# Altium schematic symbol library 6MS.SchLib: 5 symbols
Pins are listed as number, name and electrical type; pins without a type are passive.

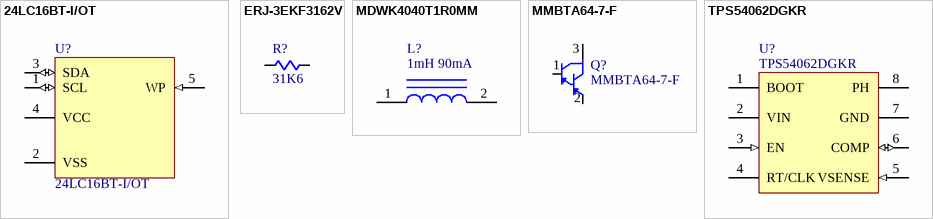
[diagram p0: symbols 24LC16BT-I/OT to TPS54062DGKR]

## 24LC16BT-I/OT
designator U?, comment value 24LC16BT-I/OT  (hidden comment: IC Mem EEPROM 16Kb (2K x 8) I2C SOT-23-5)
Dist: Digikey; Dist P/N: 24LC16BT-I/OTCT-ND; Mfg: Microchip; Mfgr P/N: 24LC16BT-I/OT; Price: 0.38; HelpURL: http://www.microchip.com/mymicrochip/filehandler.aspx?ddocname=en011855
footprint SOT23-5N (SOT23, 5-Leads, Body 3.0x3.0mm (max), Pitch 0.95mm, IPC Medium Density)
pins: 1 SCL (io), 2 VSS (power), 3 SDA (io), 4 VCC (power), 5 WP (in)

## ERJ-3EKF3162V
designator R?, comment value 31K6  (hidden comment: Res 31.6K 1/10W 1% 0603)
Dist: Digi-Key; Dist P/N: P31.6KHCT-ND; Mfg: Panasonic; Mfgr P/N: ERJ-3EKF3162V; Price: 0.05
footprint RESC1608N-0603 (Chip Resistor, Body 1.6x0.8mm, IPC Medium Density)
footprint RESC1608M-0603 (Chip Resistor, Body 1.6x0.8mm, IPC Low Density)
pins: 1, 2

## MDWK4040T1R0MM
designator L?, comment value 1mH 90mA  (hidden comment: Ind 1mH 90mA SDR0403-102KL)
Dist: Digi-Key; Dist P/N: SDR0403-102KLCT-ND; Mfg: Bourns; Mfgr P/N: SDR0403-102KL; Price: 0.69; HelpURL: https://www.bourns.com/docs/Product-Datasheets/sdr0403.pdf
footprint SDR0403 (Precision Wire Wound Inductor, 2-Leads, Body 4.5Dx3.2mmH)
pins: 1, 2

## MMBTA64-7-F
designator Q?, comment value MMBTA64-7-F  (hidden comment: Tran PNP Darl 30V 500mA SOT-23)
Dist: Digi-Key; Dist P/N: MMBTA64-FDICT-ND; Mfg: Diodes Inc; Mfgr P/N: MMBTA64-7-F; Price: 0.27; HelpURL: http://www.diodes.com/datasheets/ds30055.pdf
footprint SOT23-3M (SOT23, 3-Leads, Body 3.0x2.6mm (max), Pitch 0.95mm, IPC Low Density)
footprint SOT23-3N (SOT23, 3-Leads, Body 2.9x1.3mm, Pitch 0.95mm, Lead Span 2.5mm, IPC Medium Density)
pins: 1 Base, 2 Emitter, 3 Collector

## TPS54062DGKR
designator U?, comment value TPS54062DGKR  (hidden comment: IC Reg Buck 4.7-60V 50mA 8-MSOP)
Dist: Digi-Key; Dist P/N: 296-28780-1-ND; Mfg: TI; Mfgr P/N: TPS54062DGKR; Price: 2.25; HelpURL: http://www.ti.com/general/docs/suppproductinfo.tsp?distId=10&gotoUrl=http%3A%2F%2Fwww.ti.com%2Flit%2Fgpn%2Ftps54062
footprint MSOP65P3.0-8N (Mini SO-8, 3.0mm body width, 8 pin)
pins: 1 BOOT, 2 VIN (power), 3 EN (in), 4 RT/CLK, 5 VSENSE (in), 6 COMP (io), 7 GND (power), 8 PH (power)